# Altium schematic symbol library SCH - MPU - NXP MIMX9302CVVXDAB LFBGA306 [SOT2167-1].SchLib: 1 symbol
Pins are listed as number, name and electrical type; pins without a type are passive.

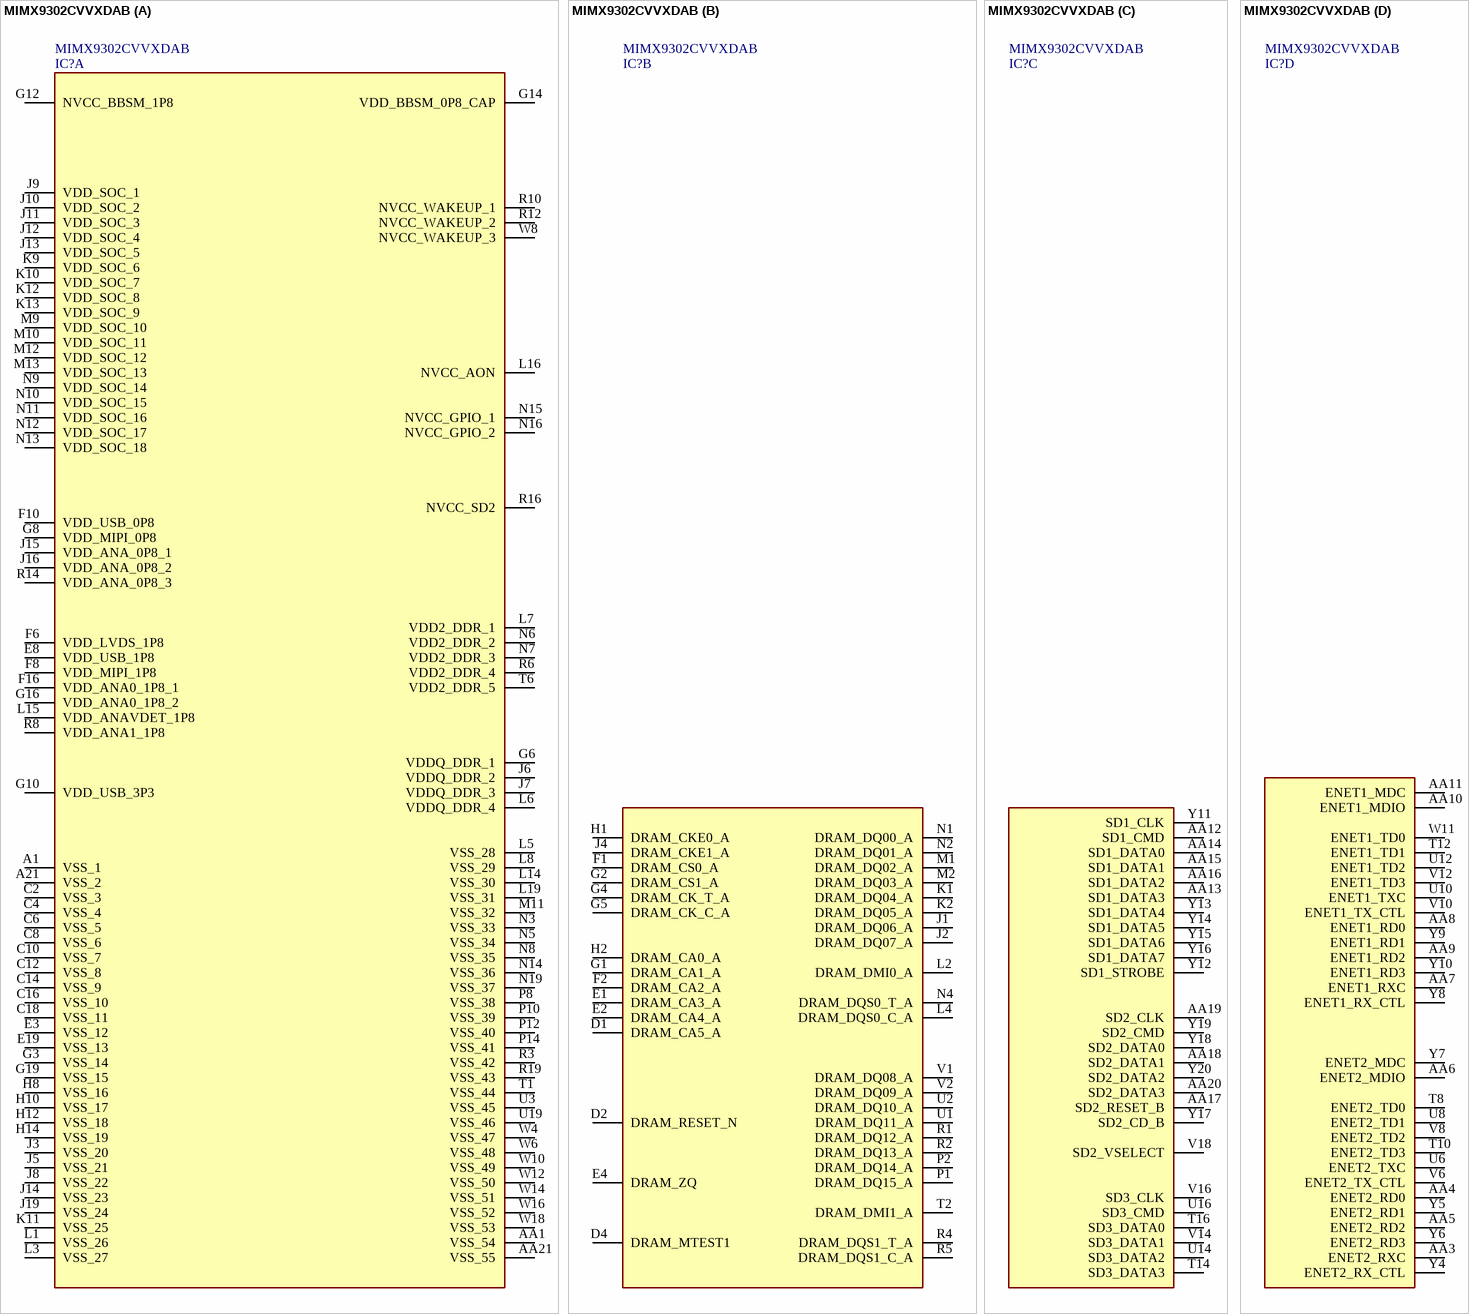
[diagram p0: symbol MIMX9302CVVXDAB]

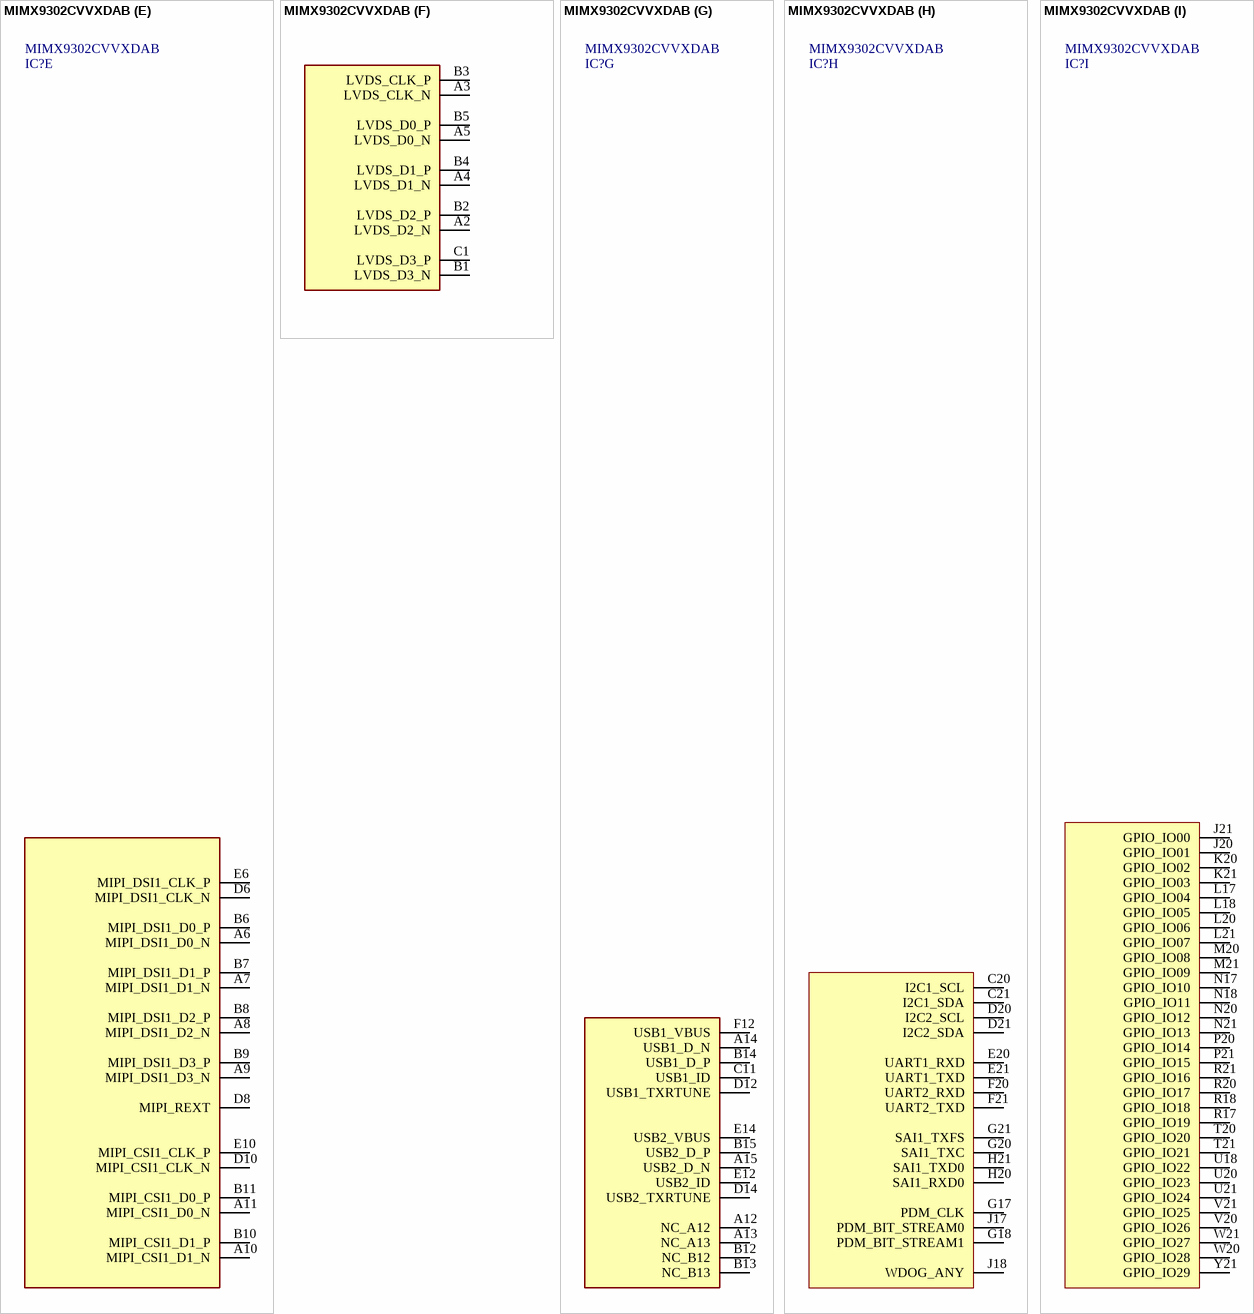
[diagram p1: symbol MIMX9302CVVXDAB]

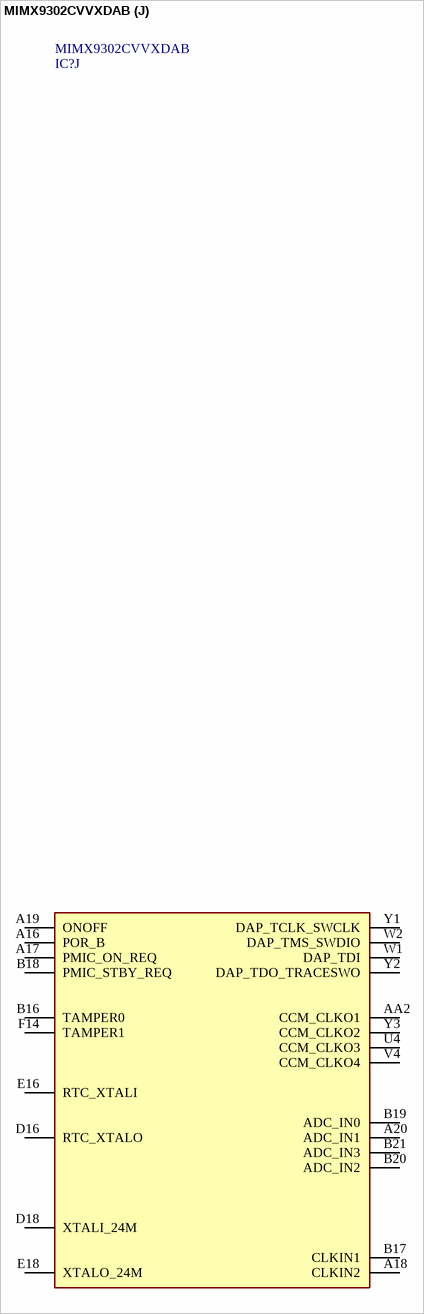
[diagram p2: symbol MIMX9302CVVXDAB]

## MIMX9302CVVXDAB
designator IC?
Microprocessor, i.MX 93x, 900MHz, 64bit, 850mV-950mV, 2 Core, -40C to 105C, FCBGA-306; Manufacturer_Name: NXP; Geometry.Height: 1.22mm; Manufacturer_Part_Number: MIMX9302CVVXDAB; Mouser Part Number: 771-MIMX9302CVVXDAB; Mouser Price/Stock: https://www.mouser.co.uk/ProductDetail/NXP-Semiconductors/MIMX9302CVVXDAB?qs=2SLPxufLcgCbC305IhlQBw%3D%3D; Arrow Part Number: MIMX9302CVVXDAB; Arrow Price/Stock: null?region=nac; Datasheet Link: https://www.nxp.com/docs/en/data-sheet/IMX93IEC.pdf
footprint BGA306C50P21X21_1100X1100X122
part A pins: A1 VSS_1, A21 VSS_2, AA1 VSS_54, AA21 VSS_55, C2 VSS_3, C4 VSS_4, C6 VSS_5, C8 VSS_6, C10 VSS_7, C12 VSS_8, C14 VSS_9, C16 VSS_10, C18 VSS_11, E3 VSS_12, E8 VDD_USB_1P8, E19 VSS_13, F6 VDD_LVDS_1P8, F8 VDD_MIPI_1P8, F10 VDD_USB_0P8, F16 VDD_ANA0_1P8_1, G3 VSS_14, G6 VDDQ_DDR_1, G8 VDD_MIPI_0P8, G10 VDD_USB_3P3, G12 NVCC_BBSM_1P8, G14 VDD_BBSM_0P8_CAP, G16 VDD_ANA0_1P8_2, G19 VSS_15, H8 VSS_16, H10 VSS_17, H12 VSS_18, H14 VSS_19, J3 VSS_20, J5 VSS_21, J6 VDDQ_DDR_2, J7 VDDQ_DDR_3, J8 VSS_22, J9 VDD_SOC_1, J10 VDD_SOC_2, J11 VDD_SOC_3, J12 VDD_SOC_4, J13 VDD_SOC_5, J14 VSS_23, J15 VDD_ANA_0P8_1, J16 VDD_ANA_0P8_2, J19 VSS_24, K9 VDD_SOC_6, K10 VDD_SOC_7, K11 VSS_25, K12 VDD_SOC_8, K13 VDD_SOC_9, L1 VSS_26, L3 VSS_27, L5 VSS_28, L6 VDDQ_DDR_4, L7 VDD2_DDR_1, L8 VSS_29, L14 VSS_30, L15 VDD_ANAVDET_1P8, L16 NVCC_AON, L19 VSS_31, M9 VDD_SOC_10, M10 VDD_SOC_11, M11 VSS_32, M12 VDD_SOC_12, M13 VDD_SOC_13, N3 VSS_33, N5 VSS_34, N6 VDD2_DDR_2, N7 VDD2_DDR_3, N8 VSS_35, N9 VDD_SOC_14, N10 VDD_SOC_15, N11 VDD_SOC_16, N12 VDD_SOC_17, N13 VDD_SOC_18, N14 VSS_36, N15 NVCC_GPIO_1, N16 NVCC_GPIO_2, N19 VSS_37, P8 VSS_38, P10 VSS_39, P12 VSS_40, P14 VSS_41, R3 VSS_42, R6 VDD2_DDR_4, R8 VDD_ANA1_1P8, R10 NVCC_WAKEUP_1, R12 NVCC_WAKEUP_2, R14 VDD_ANA_0P8_3, R16 NVCC_SD2, R19 VSS_43, T1 VSS_44, T6 VDD2_DDR_5, U3 VSS_45, U19 VSS_46, W4 VSS_47, W6 VSS_48, W8 NVCC_WAKEUP_3, W10 VSS_49, W12 VSS_50, W14 VSS_51, W16 VSS_52, W18 VSS_53
part B pins: D1 DRAM_CA5_A, D2 DRAM_RESET_N, D4 DRAM_MTEST1, E1 DRAM_CA3_A, E2 DRAM_CA4_A, E4 DRAM_ZQ, F1 DRAM_CS0_A, F2 DRAM_CA2_A, G1 DRAM_CA1_A, G2 DRAM_CS1_A, G4 DRAM_CK_T_A, G5 DRAM_CK_C_A, H1 DRAM_CKE0_A, H2 DRAM_CA0_A, J1 DRAM_DQ06_A, J2 DRAM_DQ07_A, J4 DRAM_CKE1_A, K1 DRAM_DQ04_A, K2 DRAM_DQ05_A, L2 DRAM_DMI0_A, L4 DRAM_DQS0_C_A, M1 DRAM_DQ02_A, M2 DRAM_DQ03_A, N1 DRAM_DQ00_A, N2 DRAM_DQ01_A, N4 DRAM_DQS0_T_A, P1 DRAM_DQ15_A, P2 DRAM_DQ14_A, R1 DRAM_DQ12_A, R2 DRAM_DQ13_A, R4 DRAM_DQS1_T_A, R5 DRAM_DQS1_C_A, T2 DRAM_DMI1_A, U1 DRAM_DQ11_A, U2 DRAM_DQ10_A, V1 DRAM_DQ08_A, V2 DRAM_DQ09_A
part C pins: AA12 SD1_CMD, AA13 SD1_DATA3, AA14 SD1_DATA0, AA15 SD1_DATA1, AA16 SD1_DATA2, AA17 SD2_RESET_B, AA18 SD2_DATA1, AA19 SD2_CLK, AA20 SD2_DATA3, T14 SD3_DATA3, T16 SD3_DATA0, U14 SD3_DATA2, U16 SD3_CMD, V14 SD3_DATA1, V16 SD3_CLK, V18 SD2_VSELECT, Y11 SD1_CLK, Y12 SD1_STROBE, Y13 SD1_DATA4, Y14 SD1_DATA5, Y15 SD1_DATA6, Y16 SD1_DATA7, Y17 SD2_CD_B, Y18 SD2_DATA0, Y19 SD2_CMD, Y20 SD2_DATA2
part D pins: AA3 ENET2_RXC, AA4 ENET2_RD0, AA5 ENET2_RD2, AA6 ENET2_MDIO, AA7 ENET1_RXC, AA8 ENET1_RD0, AA9 ENET1_RD2, AA10 ENET1_MDIO, AA11 ENET1_MDC, T8 ENET2_TD0, T10 ENET2_TD3, T12 ENET1_TD1, U6 ENET2_TXC, U8 ENET2_TD1, U10 ENET1_TXC, U12 ENET1_TD2, V6 ENET2_TX_CTL, V8 ENET2_TD2, V10 ENET1_TX_CTL, V12 ENET1_TD3, W11 ENET1_TD0, Y4 ENET2_RX_CTL, Y5 ENET2_RD1, Y6 ENET2_RD3, Y7 ENET2_MDC, Y8 ENET1_RX_CTL, Y9 ENET1_RD1, Y10 ENET1_RD3
part E pins: A6 MIPI_DSI1_D0_N, A7 MIPI_DSI1_D1_N, A8 MIPI_DSI1_D2_N, A9 MIPI_DSI1_D3_N, A10 MIPI_CSI1_D1_N, A11 MIPI_CSI1_D0_N, B6 MIPI_DSI1_D0_P, B7 MIPI_DSI1_D1_P, B8 MIPI_DSI1_D2_P, B9 MIPI_DSI1_D3_P, B10 MIPI_CSI1_D1_P, B11 MIPI_CSI1_D0_P, D6 MIPI_DSI1_CLK_N, D8 MIPI_REXT, D10 MIPI_CSI1_CLK_N, E6 MIPI_DSI1_CLK_P, E10 MIPI_CSI1_CLK_P
part F pins: A2 LVDS_D2_N, A3 LVDS_CLK_N, A4 LVDS_D1_N, A5 LVDS_D0_N, B1 LVDS_D3_N, B2 LVDS_D2_P, B3 LVDS_CLK_P, B4 LVDS_D1_P, B5 LVDS_D0_P, C1 LVDS_D3_P
part G pins: A12 NC_A12, A13 NC_A13, A14 USB1_D_N, A15 USB2_D_N, B12 NC_B12, B13 NC_B13, B14 USB1_D_P, B15 USB2_D_P, C11 USB1_ID, D12 USB1_TXRTUNE, D14 USB2_TXRTUNE, E12 USB2_ID, E14 USB2_VBUS, F12 USB1_VBUS
part H pins: C20 I2C1_SCL, C21 I2C1_SDA, D20 I2C2_SCL, D21 I2C2_SDA, E20 UART1_RXD, E21 UART1_TXD, F20 UART2_RXD, F21 UART2_TXD, G17 PDM_CLK, G18 PDM_BIT_STREAM1, G20 SAI1_TXC, G21 SAI1_TXFS, H20 SAI1_RXD0, H21 SAI1_TXD0, J17 PDM_BIT_STREAM0, J18 WDOG_ANY
part I pins: J20 GPIO_IO01, J21 GPIO_IO00, K20 GPIO_IO02, K21 GPIO_IO03, L17 GPIO_IO04, L18 GPIO_IO05, L20 GPIO_IO06, L21 GPIO_IO07, M20 GPIO_IO08, M21 GPIO_IO09, N17 GPIO_IO10, N18 GPIO_IO11, N20 GPIO_IO12, N21 GPIO_IO13, P20 GPIO_IO14, P21 GPIO_IO15, R17 GPIO_IO19, R18 GPIO_IO18, R20 GPIO_IO17, R21 GPIO_IO16, T20 GPIO_IO20, T21 GPIO_IO21, U18 GPIO_IO22, U20 GPIO_IO23, U21 GPIO_IO24, V20 GPIO_IO26, V21 GPIO_IO25, W20 GPIO_IO28, W21 GPIO_IO27, Y21 GPIO_IO29
part J pins: A16 POR_B, A17 PMIC_ON_REQ, A18 CLKIN2, A19 ONOFF, A20 ADC_IN1, AA2 CCM_CLKO1, B16 TAMPER0, B17 CLKIN1, B18 PMIC_STBY_REQ, B19 ADC_IN0, B20 ADC_IN2, B21 ADC_IN3, D16 RTC_XTALO, D18 XTALI_24M, E16 RTC_XTALI, E18 XTALO_24M, F14 TAMPER1, U4 CCM_CLKO3, V4 CCM_CLKO4, W1 DAP_TDI, W2 DAP_TMS_SWDIO, Y1 DAP_TCLK_SWCLK, Y2 DAP_TDO_TRACESWO, Y3 CCM_CLKO2